# Altium schematic symbol library SPT3G_LCBoard.SchLib: 18 symbols
Pins are listed as number, name and electrical type; pins without a type are passive.

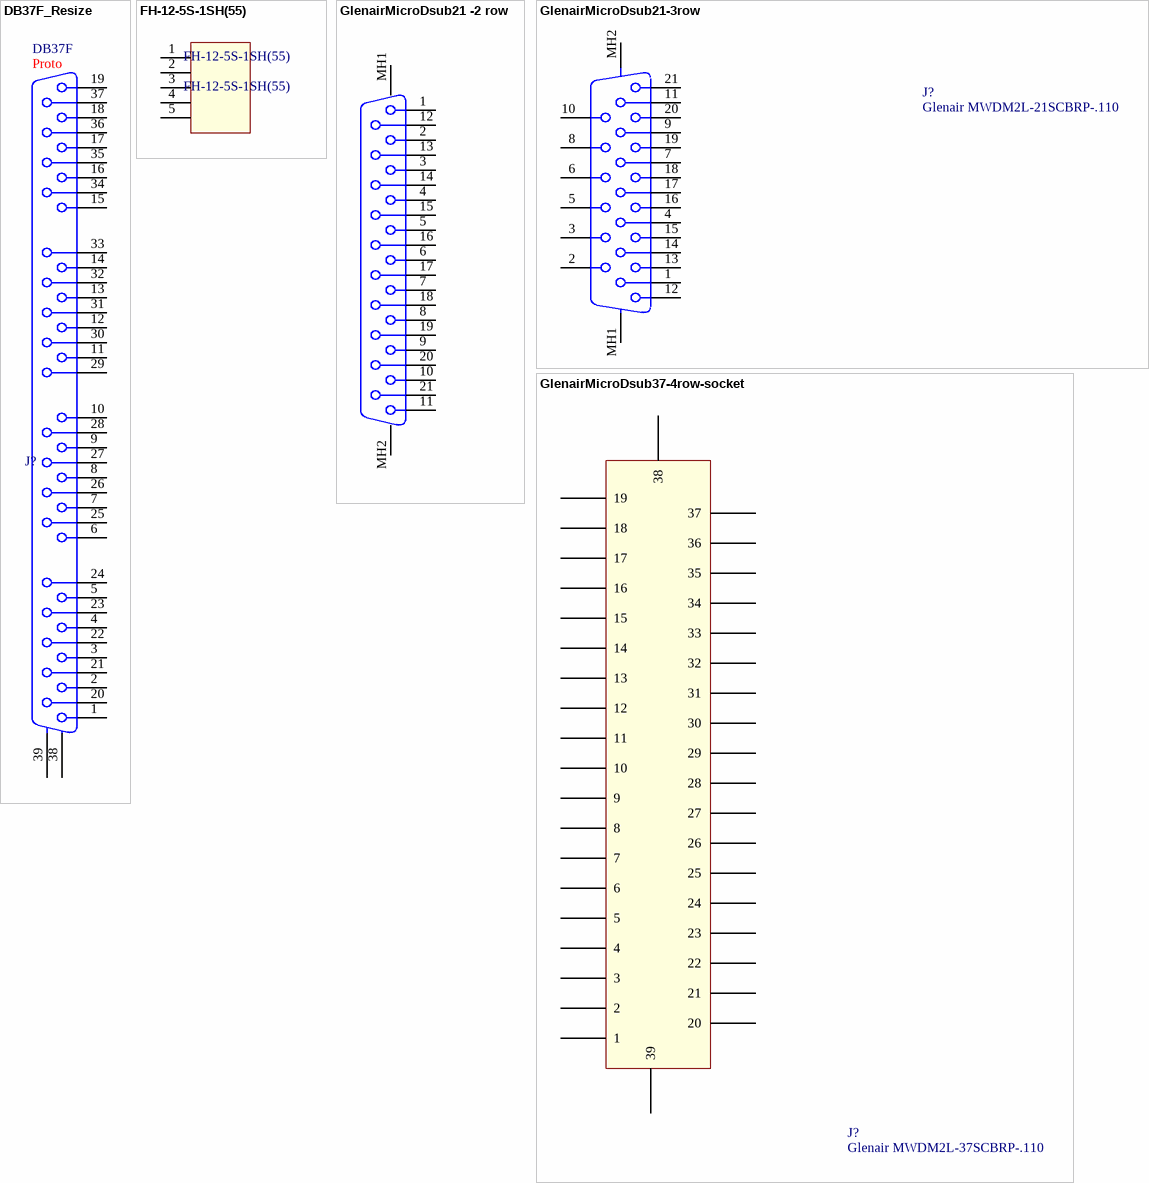
[diagram p0: symbols DB37F_Resize to GlenairMicroDsub37-4row-socket]

## DB37F_Resize
designator J?  Symbol status: Proto
DB37F; Manufacturer: Generic; Manufacturer Part Number: DB37F
footprint MICROD - SOCKET ( MDM-37SCBR-F222 )
pins: 1, 2, 3, 4, 5, 6, 7, 8, 9, 10, 11, 12, 13, 14, 15, 16, 17, 18, 19, 20, 21, 22, 23, 24, 25, 26, 27, 28, 29, 30, 31, 32, 33, 34, 35, 36, 37, 38 MH1, 39 MH2
1 alternate drawing of the same symbol

## FH-12-5S-1SH(55)
designator FH-12-5S-1SH(55)
footprint FH-12-5S-1SH(55)
pins: 1, 2, 3, 4, 5

## GlenairMicroDsub21 -2 row
designator J?, comment Glenair MWDM2L-21PBS-.110
GlenairMicroDsub21 -2 row
footprint MicroD21Glenair-Vert2row
pins: 1, 2, 3, 4, 5, 6, 7, 8, 9, 10, 11, 12, 13, 14, 15, 16, 17, 18, 19, 20, 21, MH1, MH2

## GlenairMicroDsub21-3row
designator J?, comment Glenair MWDM2L-21SCBRP-.110
GlenairMicroDsub21 - 3 row; PackageDescription: Connector; D-Sub, Thru-Hole; 9 Position; Vertical; Body 30.81 x 9.60 x 8.20 mm (LxWxH)
footprint MicroD21Glenair-RA3row
pins: 1, 2, 3, 4, 5, 6, 7, 8, 9, 10, 11, 12, 13, 14, 15, 16, 17, 18, 19, 20, 21, MH1, MH2

## GlenairMicroDsub37-4row-socket
designator J?, comment Glenair MWDM2L-37SCBRP-.110
GlenairMicroDsub37 - 4 row
footprint MICROD - SOCKET ( MDM-37SCBR-F222 )
pins: 1, 2, 3, 4, 5, 6, 7, 8, 9, 10, 11, 12, 13, 14, 15, 16, 17, 18, 19, 20, 21, 22, 23, 24, 25, 26, 27, 28, 29, 30, 31, 32, 33, 34, 35, 36, 37, 38, 39

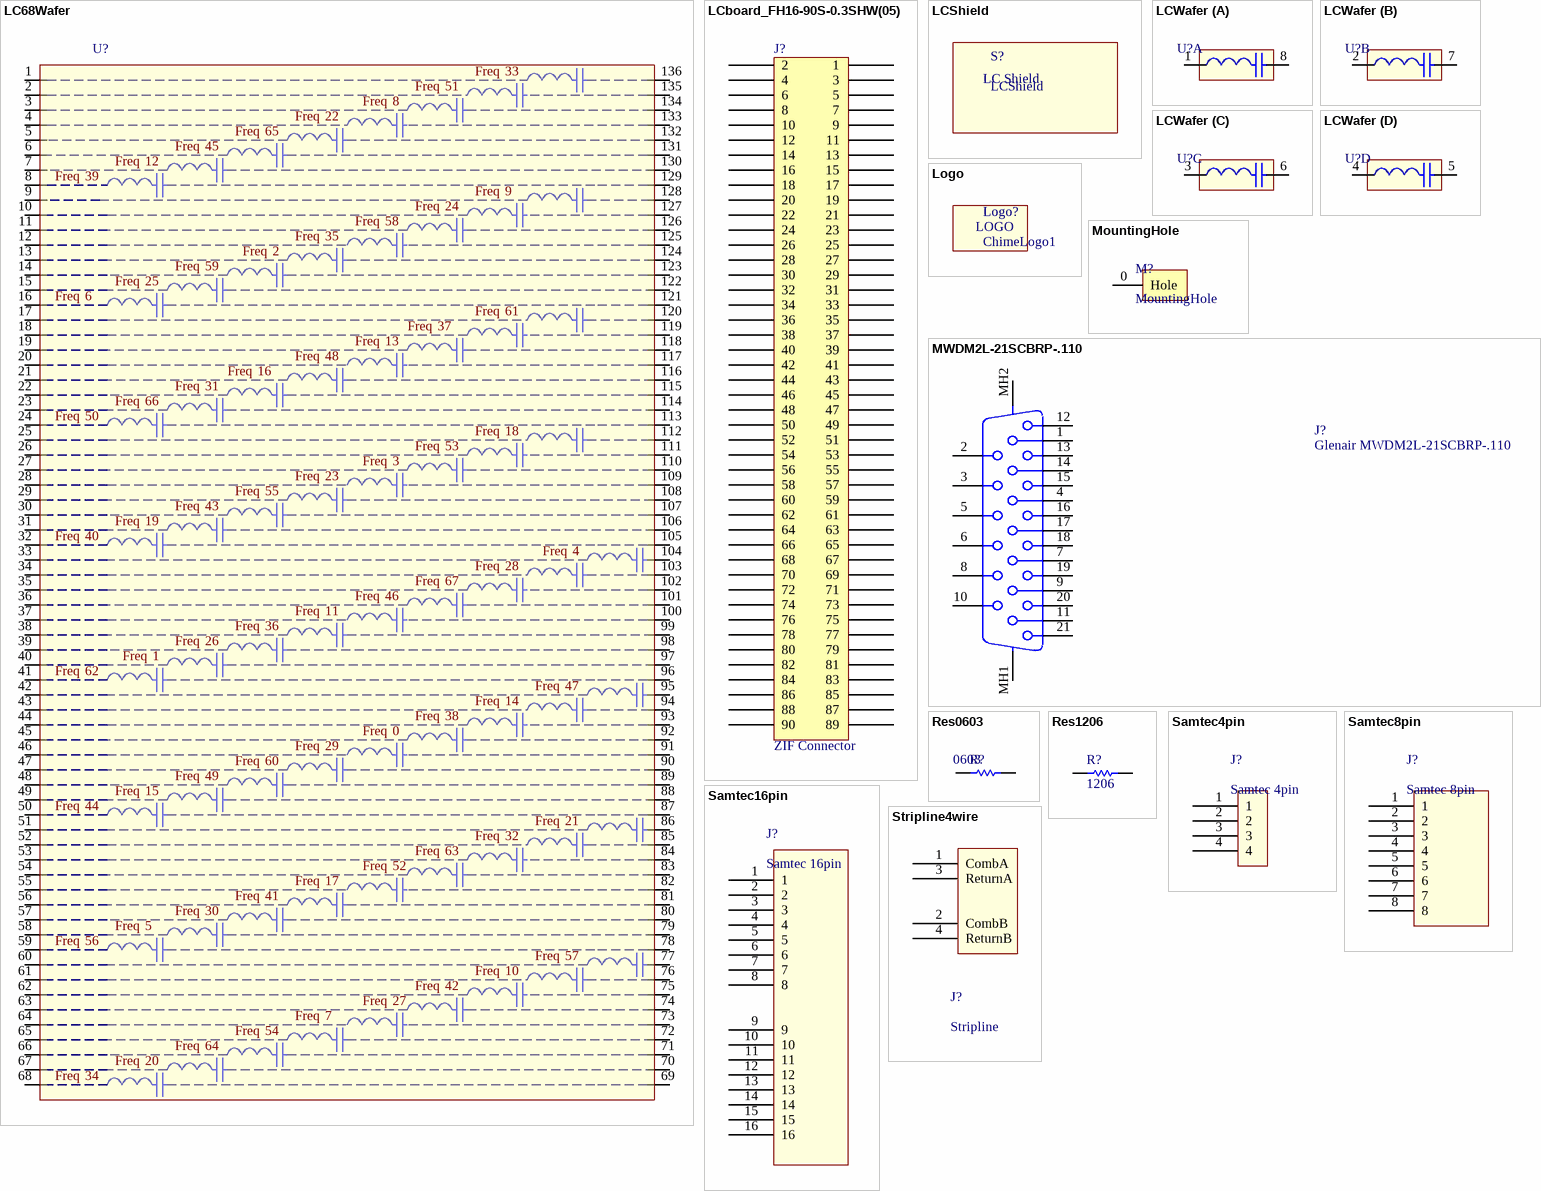
[diagram p1: symbols LC68Wafer to Stripline4wire]

## LC68Wafer
designator U?, comment LC68_wafer  (value not drawn)
Gold bonded integrated LC
footprint 68xLC
pins: 1, 2, 3, 4, 5, 6, 7, 8, 9, 10, 11, 12, 13, 14, 15, 16, 17, 18, 19, 20, 21, 22, 23, 24, 25, 26, 27, 28, 29, 30, 31, 32, 33, 34, 35, 36, 37, 38, 39, 40, 41, 42, 43, 44, 45, 46, 47, 48, 49, 50, 51, 52, 53, 54, 55, 56, 57, 58, 59, 60, 61, 62, 63, 64, 65, 66, 67, 68, 69, 70, 71, 72, 73, 74, 75, 76, 77, 78, 79, 80, 81, 82, 83, 84, 85, 86, 87, 88, 89, 90, 91, 92, 93, 94, 95, 96, 97, 98, 99, 100, 101, 102, 103, 104, 105, 106, 107, 108, 109, 110, 111, 112, 113, 114, 115, 116, 117, 118, 119, 120, 121, 122, 123, 124, 125, 126, 127, 128, 129, 130, 131, 132, 133, 134, 135, 136
text: Freq; 0

## LCboard_FH16-90S-0.3SHW(05)
designator J?, comment ZIF Connector
footprint LCBoard_ZIFCon (HFP190CT-ND)
pins: 1, 2, 3, 4, 5, 6, 7, 8, 9, 10, 11, 12, 13, 14, 15, 16, 17, 18, 19, 20, 21, 22, 23, 24, 25, 26, 27, 28, 29, 30, 31, 32, 33, 34, 35, 36, 37, 38, 39, 40, 41, 42, 43, 44, 45, 46, 47, 48, 49, 50, 51, 52, 53, 54, 55, 56, 57, 58, 59, 60, 61, 62, 63, 64, 65, 66, 67, 68, 69, 70, 71, 72, 73, 74, 75, 76, 77, 78, 79, 80, 81, 82, 83, 84, 85, 86, 87, 88, 89, 90

## LCShield
designator S?
footprint LCShield
text: LC Shield

## LCWafer
designator U?, comment LC_wafer  (value not drawn)
Gold bonded integrated LC
footprint LCCHIP4X2 - BondPads1 (LCCHIP4X2)
part A pins: 1, 8
part B pins: 2, 7
part C pins: 3, 6
part D pins: 4, 5

## Logo
designator Logo?, comment ChimeLogo1  (no BOM)
footprint ChimeLogo1
text: LOGO

## MountingHole
designator M?
footprint MountingHole (Mounting Hole)
pins: 0 Hole

## MWDM2L-21SCBRP-.110
designator J?, comment Glenair MWDM2L-21SCBRP-.110
Glenair 21pin RA Micro Dsub socket - MWDM2L-21SCBRP-.110; PackageDescription: Connector; D-Sub, Thru-Hole; 9 Position; Vertical; Body 30.81 x 9.60 x 8.20 mm (LxWxH)
footprint MWDM2L-21SCBRP-.110
pins: 1, 2, 3, 4, 5, 6, 7, 8, 9, 10, 11, 12, 13, 14, 15, 16, 17, 18, 19, 20, 21, MH1, MH2

## Res0603
designator R?, comment 0603
RES 1 OHM 1/10W 1% 0603 SMD; Value: 1; TechInfo: *
simulation model RESISTOR (Resistor)
signal-integrity model Res
footprint 0603
pins: 1, 2

## Res1206
designator R?  Footprint: 1206
Resistor; Param1: 100ppm/C; Value: DNL; Param: 1%; TechInfo: *
simulation model RESISTOR (Resistor)
signal-integrity model Res
footprint CR1608-0603M (Chip Resistor; Body 1.6 x 0.8 mm (LxW typ))
footprint 1206
pins: 1, 2

## Samtec4pin
designator J?, comment Samtec 4pin
footprint Samtec4pin
pins: 1, 2, 3, 4

## Samtec8pin
designator J?, comment Samtec 8pin
footprint Samtec8pin
pins: 1, 2, 3, 4, 5, 6, 7, 8

## Samtec16pin
designator J?, comment Samtec 16pin
footprint Samtec16pin
pins: 1, 2, 3, 4, 5, 6, 7, 8, 9, 10, 11, 12, 13, 14, 15, 16

## Stripline4wire
designator J?, comment Stripline
footprint StriplineConnection (Attachment for stripline)
pins: 1 CombA, 2 CombB, 3 ReturnA, 4 ReturnB